# EAGLE library part AE-NJL5901AR-8CH (library akizuki)
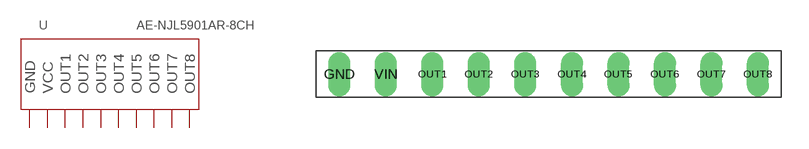
[diagram p3: symbol with the pads of AE-NJL5901AR-8CH; footprint AE-NJL5901AR-8CH]

Designator prefix -

## AE-NJL5901AR-8CH  [AE-NJL5901AR-8CH]
GND  GND  pwr
OUT1  OUT1  out
OUT2  OUT2  out
OUT3  OUT3  out
OUT4  OUT4  out
OUT5  OUT5  out
OUT6  OUT6  out
OUT7  OUT7  out
OUT8  OUT8  out
VIN  VCC  pwr

## Footprint AE-NJL5901AR-8CH (pad centres in mm)
drill 0.7 pad 1.016 long: GND -11.43,0; OUT1 -6.35,0; OUT2 -3.81,0; OUT3 -1.27,0; OUT4 1.27,0; OUT5 3.81,0; OUT6 6.35,0; OUT7 8.89,0; OUT8 11.43,0; VIN -8.89,0